# EAGLE library part 66202221122 (library Wire-to-Board)
WR-MPC3 3.00mm Male Dual Row Vertical Header, 22 Pins=>Code : Con_WTB_MPC3_2_PCB_THT_66202221122 <http://katalog.we-online.de/media/thumbs2/eican/thb_Con_WTB_MPC3_2_PCB_THT_6620xx21122_pf2.jpg> Details see: http://katalog.we-online.de/en/em/662_0xx_211_22 Created 2014-06-06, Karrer Zheng 2014 (C) Würth Elektronik
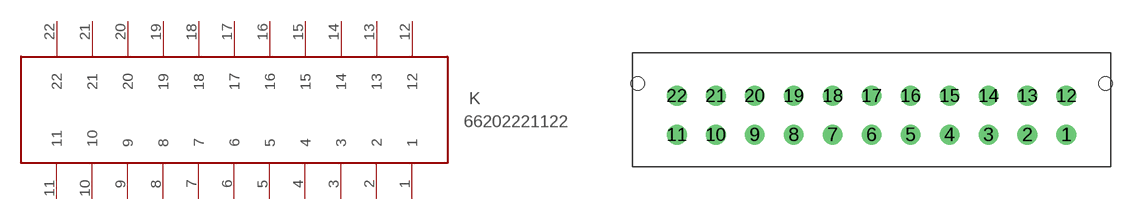
[diagram p396: symbol with the pads of 66202221122; footprint 66202221122]

Designator prefix K

## 66202221122  [66202221122]
1  1
2  2
3  3
4  4
5  5
6  6
7  7
8  8
9  9
10  10
11  11
12  12
13  13
14  14
15  15
16  16
17  17
18  18
19  19
20  20
21  21
22  22

## Footprint 66202221122 (pad centres in mm)
WR-MPC3-3.00mm Male Dual Row Vertical Header,22 pins
drill 1.02: 1 0,-1.5; 2 -3,-1.5; 3 -6,-1.5; 4 -9,-1.5; 5 -12,-1.5; 6 -15,-1.5; 7 -18,-1.5; 8 -21,-1.5; 9 -24,-1.5; 10 -27,-1.5; 11 -30,-1.5; 12 0,1.5; 13 -3,1.5; 14 -6,1.5; 15 -9,1.5; 16 -12,1.5; 17 -15,1.5; 18 -18,1.5; 19 -21,1.5; 20 -24,1.5; 21 -27,1.5; 22 -30,1.5
hole 1.02 at -33,2.44
hole 1.02 at 3,2.44